# EAGLE library part PCB-20 (library FaBo-Parts)
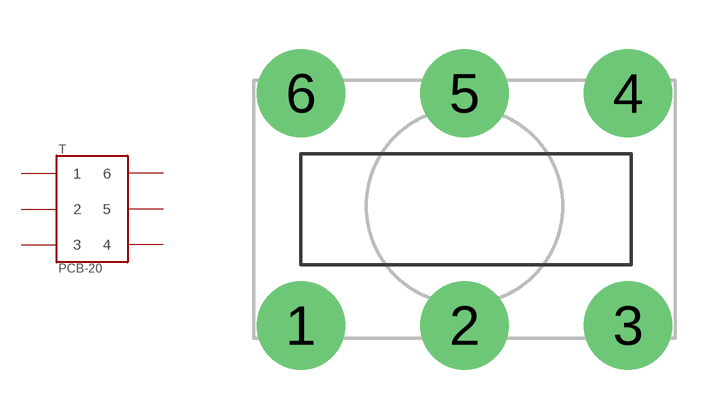
[diagram p6: symbol with the pads of PCB-20; footprint PCB-20]

Designator prefix T

## PCB-20  [PCB-20]
1  1
2  2
3  3
4  4
5  5
6  6

## Footprint PCB-20 (pad centres in mm)
drill 1.8: 1 -5,-3.55; 2 0,-3.55; 3 5,-3.55; 4 5,3.55; 5 0,3.55; 6 -5,3.55